# Altium schematic symbol library TecSix16.SCHLIB: 30 symbols
Pins are listed as number, name and electrical type; pins without a type are passive.

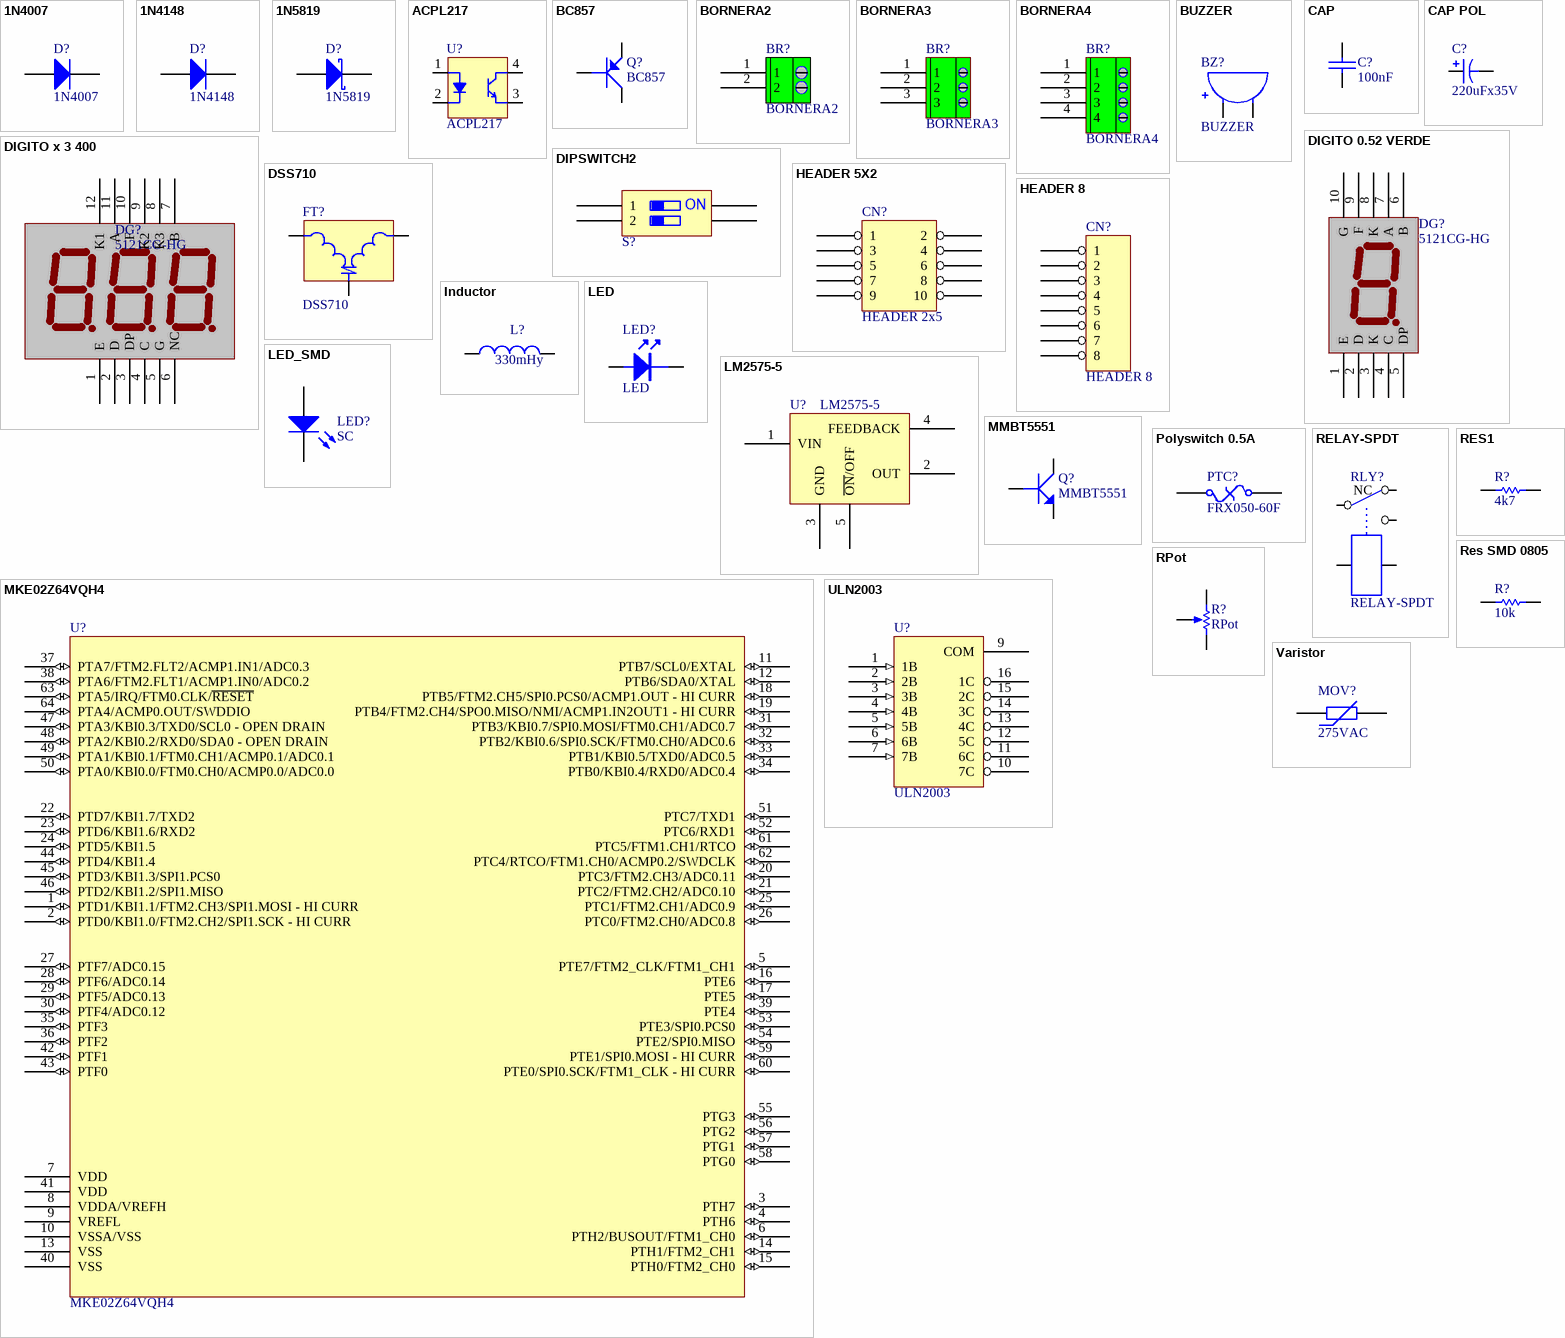
[diagram p0: symbols 1N4007 to Varistor]

## 1N4007
designator D?
1 Amp General Purpose Rectifier; Published: 8-Jun-2000; LatestRevisionDate: 17-Jul-2002; LatestRevisionNote: Re-released for DXP Platform.; DatasheetVersion: 1998; PackageVersion: Aug-1999; PackageReference: DO-41; Publisher: Altium Limited; PackageDescription: Diode, Axial; Body 5.2 x 2.7 mm (LxDia. max), Lead Dia. 0.86 mm (max); Code_JEDEC: DO-204-AL; ComponentLink1Description: Manufacturer Link; ComponentLink1URL: http://www.fairchildsemi.com/; ComponentLink2Description: Datasheet; ComponentLink2URL: http://www.fairchildsemi.com/ds/1N%2F1N4001.pdf
footprint DO-41 (Diode, Axial; Body 5.2 x 2.7 mm (LxDia. max), Lead Dia. 0.86 mm (max))
signal-integrity model 1N4007
footprint SMA (JEDEC DO-214AC. SMA)
footprint SMA_WAVE (JEDEC DO-214AC. SMA, Wave soldering)
pins: 1 A, 2 K

## 1N4148
designator D?
High Conductance Fast Diode; Published: 8-Jun-2000; LatestRevisionDate: 17-Jul-2002; LatestRevisionNote: Re-released for DXP Platform.; DatasheetVersion: 1997; PackageReference: DO-35; Publisher: Altium Limited; PackageDescription: Diode, Axial; Body 3.8 x 1.9 mm (LxDia. max), Lead Dia. 0.53 mm (max); Code_JEDEC: DO-204-AH; ComponentLink1Description: Manufacturer Link; ComponentLink1URL: http://www.fairchildsemi.com/; ComponentLink2Description: Datasheet; ComponentLink2URL: http://www.fairchildsemi.com/ds/1N%2F1N4148.pdf
footprint DO-35 (Diode, Axial; Body 3.8 x 1.9 mm (LxDia. max), Lead Dia. 0.53 mm (max))
signal-integrity model 1N4148
footprint MiniMELF (Diode, MiniMELF SOD-80)
footprint MiniMELF_WAVE (Diode, MiniMELF SOD-80, Wave soldering)
pins: 1 A, 2 K

## 1N5819
designator D?
1 Amp Schottky Diode; Manufacturer: FAIRCHILD SEMICONDUCTOR; Published: 8-Jun-2000; LatestRevisionDate: 17-Jul-2002; LatestRevisionNote: Re-released for DXP Platform.; DatasheetVersion: 1998; PackageVersion: Aug-1999; PackageReference: DO-41; Publisher: Altium Limited; PackageDescription: Diode, Axial; Body 5.2 x 2.7 mm (LxDia. max), Lead Dia. 0.86 mm (max); Code_JEDEC: DO-204-AL; ComponentLink1Description: Manufacturer Link; ComponentLink1URL: http://www.fairchildsemi.com/; ComponentLink2Description: Datasheet; ComponentLink2URL: http://www.fairchildsemi.com/ds/1N%2F1N4001.pdf; Supplier 1: Farnell; Manufacturer Part Number: 1N5819; RoHS: YES; ComponentLink3URL: http://www.farnell.com/datasheets/1671052.pdf; ComponentLink3Description: http://www.farnell.com/datasheets/1671052.pdf
footprint DO-41 (Diode, Axial; Body 5.2 x 2.7 mm (LxDia. max), Lead Dia. 0.86 mm (max))
footprint SOD-123 (SOD-123; 2 Leads; Body 2.7 x 1.6 mm, (LxW))
pins: 1 A, 2 K

## ACPL217
designator U?
Optocoupler, Phototransistor Output, Dual Channel, TTL Compatible, Pb-free; Manufacturer: Avago Technologies; Manufacturer Part Number: 4N25-000E; Note: Coupling Capacitance, 0.5 pF; Note: Transfer Ratio, 35 % Typical; Input Type: DC; Isolation Voltage: 2500 Vrms; Output Device: NPN Phototransistor; Forward Current: 80 mA; Maximum Collector Current: 100 mA; Maximum Collector Emitter Saturation Voltage: 0.5 V; Maximum Collector Emitter Voltage: 30 V; Maximum Forward Diode Voltage: 1.5 V; Maximum Power Dissipation: 250 mW; Maximum Reverse Diode Voltage: 6 V; Number of Channels per Chip: 1 Channel; Published: 6-Oct-2005; DatasheetDocument: Rev. 1.4, Oct-2004; PackageDocument: Dec-2003; PackageReference: DIP8; Publisher: Altium Limited; ComponentLink1Description: Manufacturer Link; ComponentLink1URL: http://www.vishay.com/optocouplers/list/product-83640/; ComponentLink2Description: Datasheet; ComponentLink2URL: http://www.vishay.com/docs/83640/83640.pdf; Supplier 1: Mouser; RoHS: RoHS Compliant; Category: Transistor Output Optocouplers; Stock 1: 6574; Pricing 1: 1=0.648, 10=0.505, 100=0.298, 1000=0.220, 2500=0.194, 10000=0.181, 25000=0.176, 50000=0.169, 100000=0.162 (AUD); Output Type: DC; Package / Case: PDIP-6; Packaging: Tube; Maximum Input Diode Current: 80 mA; Maximum Operating Temperature: + 100 C; Minimum Operating Temperature: - 55 C; Product Category: Photocouplers; Standard Pack Qty: 65; RoHS - Mouser: Y; Minimum Order Quantity: 1; Reeling: False; ComponentLink3URL: http://www.avagotech.com/docs/AV02-0412EN; ComponentLink3Description: http://www.avagotech.com/docs/AV02-0412EN; Price: 0.18
footprint SOIC4 (4-Pin Plastic Narrow Body Small Outline Integrated Circuit 1.27 mm Pitch, IPC Medium Density)
pins: 1 A, 2 K, 3 E, 4 C

## BC857
designator Q?
PNP bipolar transistor; Price: 0,035
footprint SOT23_N (SOT23, 3-Leads, Body 2.9x1.3mm, Pitch 0.95mm, Lead Span 2.3mm - Reverse Pinning, IPC Medium Density)
footprint SOT23_BOTTOM (SOT23, 3-Leads, Body 2.9x1.3mm, Pitch 0.95mm, Lead Span 2.3mm - Reverse Pinning, IPC Medium Density)
pins: 1 B, 2 E, 3 C

## BORNERA2
designator BR?
BORNERA; Text Field1: 0,69
footprint B2PE
footprint B2P (Xinya XY128, 5.00mm 2 terminales)
footprint BORNERA MINI 2 (Xinya XY350, 3.5mm 2 terminales)
footprint B2PVM (MSTBV2.5/2-G-5.08,  Xinya XY2500 5.08mm)
footprint BORNERA MINI 2 90DEG (Phoenix PT 1,5/2-3,5, 3.5mm 2 terminales, 90º)
pins: 1, 2

## BORNERA3
designator BR?
BORNERA
footprint B3PE
footprint BORNERA MINI 3 (Xinya XY350, 3.5mm 3 terminales)
footprint B3P (Xinya XY128, 5.00mm 3 terminales)
footprint B3PVM (MSTBV2.5/3-G-5.08,  Xinya XY2500 5.08mm)
footprint BORNERA MINI 3 90DEG (Phoenix PT 1,5/3-3,5, 3.5mm 3 terminales, 90º)
pins: 1, 2, 3

## BORNERA4
designator BR?
BORNERA; Text Field1: 0,5
footprint B4P (Xinya XY128, 5.00mm 4 terminales)
footprint B4PVM (MSTBV2.5/4-G-5.08,  Xinya XY2500 5.08mm)
pins: 1, 2, 3, 4

## BUZZER
designator BZ?
footprint BUZZER
footprint BUZZER_GOMA
pins: 1, 2

## CAP
designator C?, comment 100nF
Non polarized capacitor; Value: 100nF; Price: 0,022
footprint CAP0.1
footprint CAP0.2
footprint CAP0.3
footprint CAP0.4
footprint C-0805_N (Chip Capacitor, Body 2.0x1.2mm, IPC Medium Density)
footprint C-0805_N_WAVE (Chip Capacitor, Body 2.0x1.2mm, IPC Medium Density, Wave soldering)
footprint CAP0.6
footprint C-1206_N (Chip Capacitor, Body 3.2x1.6mm, IPC Medium Density)
pins: 1, 2

## CAP POL
designator C?, comment 220uFx35V
Polarized Capacitor; Value: 1uFx16V; Published: 8-Jun-2000; LatestRevisionDate: 17-Jul-2002; LatestRevisionNote: Re-released for DXP Platform.; PackageReference: POLAR0.8; Publisher: Altium Limited; PackageDescription: Polarized Capacitor; 2 Leads
footprint POLAR0.8 (Polarized Capacitor; 2 Leads)
simulation model CAP (Capacitor)
signal-integrity model Cap Pol
footprint RB.1/.2
footprint RB.1/.3
footprint RB.3/.75
footprint RB.2/.5
footprint RB.2/.4 (Eletrolytic capacitor 0.2in 10x21mm)
footprint RB.2/.4_HORIZONTAL (Eletrolytic capacitor 0.2in 10x21mm acostado)
footprint CAP_ELEC_8x14 (Electrolytic capacitor 3.5mm pitch 8x14mm)
footprint CAP_ELEC_10x20 (Electrolytic capacitor 0.2mm pitch 10x20mm)
footprint CAP_ELEC_16x25 (Electrolytic capacitor 0.3in 16x25mm)
footprint CAP_ELEC_5x11 (Electrolytic capacitor 0.1in 5x11.2mm)
footprint CAP_ELEC_6.3x11 (Electrolytic capacitor 0.1in 6.3x11.2mm)
footprint CAP_ELEC_6.3x11_H (Electrolytic capacitor 0.1in 6.3x11.2mm horizontal mounting)
footprint CAP_ELEC_22x47 (Electrolytic capacitor 0.4in 22x47mm)
pins: 1, 2
1 alternate drawing of the same symbol

## DIGITO 0.52 VERDE
designator DG?, comment 5121CG-HG
Dígito 0.52' cátodo común verde
footprint DIGIT_0.52 (7 segment single digit 13.2mm (0.52"))
footprint DIGIT_0.52R (7 segment single digit 13.2mm (0.52") bottom side)
pins: 1 E, 2 D, 3 K, 4 C, 5 DP, 6 B, 7 A, 8 K, 9 F, 10 G

## DIGITO x 3 400
designator DG?, comment 5121CG-HG
Dígito 0.52' cátodo común verde
footprint DIGIT_3_400 (7 segment single digit 400)
pins: 1 E, 2 D, 3 DP, 4 C, 5 G, 6 NC, 7 B, 8 K3, 9 K2, 10 F, 11 A, 12 K1

## DIPSWITCH2
designator S?  (value not drawn)
DIP Switch, 2 selectores
footprint SW DIP-2
pins: 1, 2, 3, 4
text: ON

## DSS710
designator FT?
Varistors 22000pF 6A 12volt EMIGUARD; Manufacturer: Murata Electronics; Manufacturer Part Number: VFS9VD31B223Q91J; Tolerance: - 30 %, + 20 %; Supplier 1: Mouser; RoHS: RoHS Compliant; Category: Varistors; Stock 1: 0; Pricing 1: 1=1.80, 10=1.06, 100=0.871, 500=0.805, 800=0.718, 2400=0.624, 9600=0.598, 24800=0.566 (AUD); Operating Temperature Range: - 25 C to + 85 C; Packaging: Reel; Termination Style: Radial; Brand: Murata Electronics; Product Category: Through Hole Suppression Filters; Standard Pack Qty: 800; RoHS - Mouser: Y; Minimum Order Quantity: 1; Reeling: True; ComponentLink1URL: http://search.murata.co.jp/Ceramy/CatalogAction.do?sHinnm=?&nbsp&sNHinnm=VFS9VD31B223Q91J&sNhin_key=VFS9VD31B223Q91J&sLang=en&sParam=VFS9V; ComponentLink1Description: http://search.murata.co.jp/Ceramy/CatalogAction.do?sHinnm=?&nbsp&sNHinnm=VFS9VD31B223Q91J&sNhin_key=VFS9VD31B223Q91J&sLang=en&sParam=VFS9V; Supplier Part Number 1: 81-VFS9VD31B223Q91J
footprint FILT_T
footprint FILT_5P
pins: 1, 2, 3
2 alternate drawings of the same symbol

## HEADER 5X2
designator CN?, comment HEADER 2x5
footprint SIP2X5
pins: 1, 2, 3, 4, 5, 6, 7, 8, 9, 10

## HEADER 8
designator CN?
footprint SIP8
pins: 1, 2, 3, 4, 5, 6, 7, 8

## Inductor
designator L?, comment 330mHy
Inductor; Code_IEC: 1005; Value: 10mH; Published: 8-Jun-2000; LatestRevisionDate: 29-May-2009; LatestRevisionNote: IPC-7351 Footprint Added.; PackageReference: 0402-A; Publisher: Altium Limited; PackageDescription: Chip Inductor; Code_JEITA: 0402; Supplier 1: Mouser
simulation model INDUCTOR (Inductor)
signal-integrity model Inductor
footprint IND_RAD_0.2 (Radial vertical inductor 0.2in)
footprint AXIAL-0.4 (Axial Device, Thru-Hole; 2 Leads; 0.4 in Pin Spacing)
footprint L-1007_N (Chip Inductor, Body 2.5x1.8mm, IPC Medium Density)
footprint IND_RAD_0.4 (Radial vertical inductor 0.4in)
pins: 1, 2

## LED
designator LED?
Price: 0,04
footprint LED3MM +
footprint LED3MM
footprint LED5MM (Led de 5 mm)
footprint LED5MM + (Led de 5 mm)
footprint LED_RECT
footprint LED_CIL_5MM (Cilindric 5mm LED)
pins: 1 A, 2 K

## LED_SMD
designator LED?, comment SC
LED SMD; Published: 8-Jun-2000; LatestRevisionDate: 08-Jul-2005; LatestRevisionNote: Mech Layer 1 removed.; Publisher: Altium Limited; PackageDescription: LED; 2 Leads
footprint LED-0805_N (LED Body 2.0x1.2mm, IPC Medium Density)
footprint 2-PLCC
footprint LED-0805_N -2 (LED Body 2.0x1.2mm, IPC Medium Density)
pins: 1 A, 2 K

## LM2575-5
designator U?
IC REG BUCK 5V 1A TO220-5; Manufacturer: Micrel Inc; Manufacturer Part Number: LM2575-5.0WT; Function: Step-Down; Output Configuration: Positive; Output Type: Fixed; Number of Outputs: 1; Voltage - Input (Min): 4V; Voltage - Input (Max): 40V; Frequency - Switching: 52kHz; Synchronous Rectifier: No; Supplier 1: Digi-Key; RoHS: RoHS Compliant; Category: Integrated Circuits (ICs); Stock 1: 705; Pricing 1: 1=2.39, 10=2.156, 25=1.9252, 100=1.7325, 250=1.54, 500=1.3475, 1000=1.1165, 2500=1.0395 (USD); Packaging: Tube; Topology: Buck; Voltage - Output (Min/Fixed): 5V; Voltage - Output (Max): -; Current - Output: 1A; Operating Temperature: -40°C ~ 125°C (TJ); Mounting Type: Through Hole; Package / Case: TO-220-5; Supplier Device Package: TO-220-5; ComponentLink1URL: http://www.micrel.com/_PDF/lm2575.pdf; ComponentLink1Description: http://www.micrel.com/_PDF/lm2575.pdf; Supplier Part Number 1: 576-1516-5-ND
footprint TO-220-5
pins: 1 VIN, 2 OUT, 3 GND, 4 FEEDBACK, 5 ~{ON}/OFF

## MKE02Z64VQH4
designator U?
IC MCU 32BIT 64KB FLASH 64QFP; Manufacturer: Freescale Semiconductor; Core Processor: ARM® Cortex®-M0+; Core Size: 32-Bit; Speed: 40MHz; Connectivity: I²C, SPI, UART/USART; Peripherals: LVD, WDT; Number of I/O: 57; Program Memory Size: 64KB (64K x 8); EEPROM Size: 256 x 8; RAM Size: 4K x 8; Voltage - Supply (Vcc/Vdd): 2.7 V ~ 5.5 V; Data Converters: A/D 16x12b, D/A 2x6b; Oscillator Type: Internal; Supplier 1: Digi-Key; Manufacturer Part Number: MKE02Z64VQH4; RoHS: RoHS Compliant; Category: Integrated Circuits (ICs); Stock 1: 60; Packaging: Tray; Program Memory Type: FLASH; Operating Temperature: -40°C ~ 105°C; Package / Case: 64-QFP; Supplier Device Package: 64-QFP (14x14); ComponentLink1URL: http://cache.freescale.com/files/microcontrollers/doc/data_sheet/MKE02P64M40SF0.pdf; ComponentLink1Description: http://cache.freescale.com/files/microcontrollers/doc/data_sheet/MKE02P64M40SF0.pdf
footprint QFP64 (QFP, 64-Leads, Body 14x14mm, Pitch 0.8mm, IPC Medium Density)
pins: 1 PTD1/KBI1.1/FTM2.CH3/SPI1.MOSI - HI CURR (io), 2 PTD0/KBI1.0/FTM2.CH2/SPI1.SCK - HI CURR (io), 3 PTH7 (io), 4 PTH6 (io), 5 PTE7/FTM2_CLK/FTM1_CH1 (io), 6 PTH2/BUSOUT/FTM1_CH0 (io), 7 VDD (power), 8 VDDA/VREFH (power), 9 VREFL (power), 10 VSSA/VSS (power), 11 PTB7/SCL0/EXTAL (io), 12 PTB6/SDA0/XTAL (io), 13 VSS (power), 14 PTH1/FTM2_CH1 (io), 15 PTH0/FTM2_CH0 (io), 16 PTE6 (io), 17 PTE5 (io), 18 PTB5/FTM2.CH5/SPI0.PCS0/ACMP1.OUT - HI CURR (io), 19 PTB4/FTM2.CH4/SPO0.MISO/NMI/ACMP1.IN2OUT1 - HI CURR (io), 20 PTC3/FTM2.CH3/ADC0.11 (io), 21 PTC2/FTM2.CH2/ADC0.10 (io), 22 PTD7/KBI1.7/TXD2 (io), 23 PTD6/KBI1.6/RXD2 (io), 24 PTD5/KBI1.5 (io), 25 PTC1/FTM2.CH1/ADC0.9 (io), 26 PTC0/FTM2.CH0/ADC0.8 (io), 27 PTF7/ADC0.15 (io), 28 PTF6/ADC0.14 (io), 29 PTF5/ADC0.13 (io), 30 PTF4/ADC0.12 (io), 31 PTB3/KBI0.7/SPI0.MOSI/FTM0.CH1/ADC0.7 (io), 32 PTB2/KBI0.6/SPI0.SCK/FTM0.CH0/ADC0.6 (io), 33 PTB1/KBI0.5/TXD0/ADC0.5 (io), 34 PTB0/KBI0.4/RXD0/ADC0.4 (io), 35 PTF3 (io), 36 PTF2 (io), 37 PTA7/FTM2.FLT2/ACMP1.IN1/ADC0.3 (io), 38 PTA6/FTM2.FLT1/ACMP1.IN0/ADC0.2 (io), 39 PTE4 (io), 40 VSS (power), 41 VDD (power), 42 PTF1 (io), 43 PTF0 (io), 44 PTD4/KBI1.4 (io), 45 PTD3/KBI1.3/SPI1.PCS0 (io), 46 PTD2/KBI1.2/SPI1.MISO (io), 47 PTA3/KBI0.3/TXD0/SCL0 - OPEN DRAIN (io), 48 PTA2/KBI0.2/RXD0/SDA0 - OPEN DRAIN (io), 49 PTA1/KBI0.1/FTM0.CH1/ACMP0.1/ADC0.1 (io), 50 PTA0/KBI0.0/FTM0.CH0/ACMP0.0/ADC0.0 (io), 51 PTC7/TXD1 (io), 52 PTC6/RXD1 (io), 53 PTE3/SPI0.PCS0 (io), 54 PTE2/SPI0.MISO (io), 55 PTG3 (io), 56 PTG2 (io), 57 PTG1 (io), 58 PTG0 (io), 59 PTE1/SPI0.MOSI - HI CURR (io), 60 PTE0/SPI0.SCK/FTM1_CLK - HI CURR (io), 61 PTC5/FTM1.CH1/RTCO (io), 62 PTC4/RTCO/FTM1.CH0/ACMP0.2/SWDCLK (io), 63 PTA5/IRQ/FTM0.CLK/~{RESET} (io), 64 PTA4/ACMP0.OUT/SWDDIO (io)

## MMBT5551
designator Q?
NPN Bipolar Transistor; Text Field1: 0,05
footprint SOT23_N (SOT23, 3-Leads, Body 2.9x1.3mm, Pitch 0.95mm, Lead Span 2.3mm - Reverse Pinning, IPC Medium Density)
pins: 1 B, 2 E, 3 C

## Polyswitch 0.5A
designator PTC?, comment FRX050-60F
Fusible Reseteable, PTC, Ihold = 0.5A, Vmax = 60V, Imax = 40A, RiniMin = 0.5Ohm; Manufacturer: Bourns Inc.; Manufacturer Part Number: MF-RX050/72-AP; Voltage - Max: 72V; Current - Hold (Ih) (Max): 500mA; Current - Trip (It): 1A; R Min/Max: 0.410 ~ 0.770 Ohm; Time to Trip: 4s; Supplier 1: Digi-Key; RoHS: RoHS Compliant; Category: Circuit Protection; Stock 1: 0; Pricing 1: 1=0 (USD); Packaging: Cut Tape (CT); Current - Max: 40A; Package / Case: Radial, Disc; ComponentLink1URL: http://www.bourns.com/data/global/pdfs/MFRX72.pdf; ComponentLink1Description: http://www.bourns.com/data/global/pdfs/MFRX72.pdf; Price: 0,25
footprint POLY0.2
footprint POLY-2920_N (Chip Polyswitch, Body 7.4x5.1mm, IPC Medium Density)
pins: 1, 2

## RELAY-SPDT
designator RLY?
RELAY SIMPLE INVERSOR 12 V; Text Field1: 0.45
footprint REL5PCUB
footprint RELE_MINI
pins: CO1, CO2, COM, NA, NC

## RES1
designator R?, comment 4k7
Resistor; Value: 1k; Published: 8-Jun-2000; LatestRevisionDate: 17-Jul-2002; LatestRevisionNote: Re-released for DXP Platform.; PackageReference: AXIAL-0.3; Publisher: Altium Limited; PackageDescription: Axial Device, Thru-Hole; 2 Leads; 0.3 in Pin Spacing; Price: 0,03
simulation model RESISTOR (Resistor)
signal-integrity model Res
footprint AXIAL-0.3 (Axial Device, Thru-Hole; 2 Leads; 0.3 in Pin Spacing)
footprint AXIAL-0.4 (Axial Device, Thru-Hole; 2 Leads; 0.4 in Pin Spacing)
footprint AXIAL-0.5 (Axial Device, Thru-Hole; 2 Leads; 0.5 in Pin Spacing)
footprint AXIAL-0.6 (Axial Device, Thru-Hole; 2 Leads; 0.6 in Pin Spacing)
footprint AXIAL-0.7 (Axial Device, Thru-Hole; 2 Leads; 0.7 in Pin Spacing)
footprint AXIAL-0.8 (Axial Device, Thru-Hole; 2 Leads; 0.8 in Pin Spacing)
footprint AXIAL-0.9 (Axial Device, Thru-Hole; 2 Leads; 0.9 in Pin Spacing)
footprint AXIAL-1.0 (Axial Device, Thru-Hole; 2 Leads; 1.0 in Pin Spacing)
footprint R-0805_N (Chip Resistor, Body 2.0x1.2mm, IPC Medium Density)
footprint R-0805_N_WAVE (Chip Resistor, Body 2.0x1.2mm, IPC Medium Density, Wave soldering)
pins: 1, 2

## Res SMD 0805
designator R?, comment 10k
Resistor SMD 0805; Precio Deksor: 0.00; Value: 1k; Published: 8-Jun-2000; LatestRevisionDate: 17-Jul-2002; LatestRevisionNote: Re-released for DXP Platform.; PackageReference: AXIAL-0.3; Publisher: Altium Limited; PackageDescription: Axial Device, Thru-Hole; 2 Leads; 0.3 in Pin Spacing
simulation model RESISTOR (Resistor)
signal-integrity model Res
footprint R-0805_N (Chip Resistor, Body 2.0x1.2mm, IPC Medium Density)
footprint R-0805_N_WAVE (Chip Resistor, Body 2.0x1.2mm, IPC Medium Density, Wave soldering)
pins: 1, 2

## RPot
designator R?
Preset; Sim Note: Enter the Resistance value and the set point into parameter fields.; Set Position: 0.5; Value: 1K; Published: 8-Jun-2000; LatestRevisionDate: 17-Jul-2002; LatestRevisionNote: Re-released for DXP Platform.; PackageReference: VR5; Publisher: Altium Limited; PackageDescription: Variable Resistor, Thru-Hole; 3 Leads
footprint VR5 (Thru-Hole; 3 Leads)
simulation model POT (Potentiometer)
footprint VR3 (Thru-Hole; 3 Leads)
footprint VRHORIZ (Pines 132)
footprint TRIMPOT_VER_1 (Trimpot vertical, side adjustment)
footprint TRIMPOT_VER_2 (Trimpot vertical, top adjustment)
footprint TRIMPOT_HORIZONAL (Trimpot horizontal, top adjustment)
pins: 1 TOP, 2 TAP, 3 BOT
1 alternate drawing of the same symbol

## ULN2003
designator U?
7 NPN Darlington; Manufacturer: Texas Instruments; Manufacturer Part Number: ULN2003ADR; Text Field1: 0,35; Text Field2: 7 DARLINGTON INTEGRADOS; Current - Collector (Ic) (Max): 500mA; Voltage - Collector Emitter Breakdown (Max): 50V; Vce Saturation (Max) @ Ib, Ic: 1.6V @ 500µA, 350mA; Supplier 1: Digi-Key; RoHS: RoHS Compliant; Category: Discrete Semiconductor Products; Stock 1: 92514; Pricing 1: 1=0.56, 10=0.494, 25=0.4332, 100=0.248 (USD); Packaging: Cut Tape (CT); Transistor Type: 7 NPN Darlington; Current - Collector Cutoff (Max): -; DC Current Gain (hFE) (Min) @ Ic, Vce: -; Power - Max: -; Frequency - Transition: -; Mounting Type: Surface Mount; Package/Case: 16-SOIC (0.154", 3.90mm Width); Supplier Device Package: 16-SOIC; ComponentLink1URL: http://www.ti.com/lit/ds/symlink/uln2003a.pdf; ComponentLink1Description: http://www.ti.com/lit/ds/symlink/uln2003a.pdf
footprint DIP16
footprint SO-16_N (16-Pin Small Outline Integrated Circuit 1.27 mm Pitch, IPC Medium Density)
pins: 1 1B (in), 2 2B (in), 3 3B (in), 4 4B (in), 5 5B (in), 6 6B (in), 7 7B (in), 8 GND (power) hidden to GND, 9 COM, 10 7C (oc), 11 6C (oc), 12 5C (oc), 13 4C (oc), 14 3C (oc), 15 2C (oc), 16 1C (oc)

## Varistor
designator MOV?, comment 275VAC
Metal oxide varistor; Text Field1: 0,14
footprint CAP0.4
footprint CAP0.6
footprint VAR0.3 (Metal oxide varistor)
footprint VAR0.3_2 (Metal oxide varistor)
pins: 1, 2